# Altium schematic symbol library BQ7721605.SchLib: 1 symbol
Pins are listed as number, name and electrical type; pins without a type are passive.

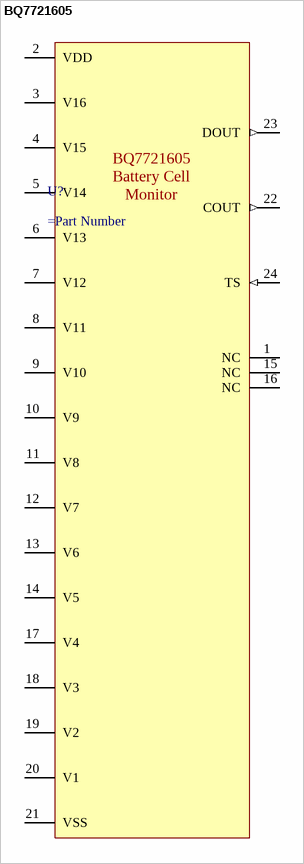
[diagram p0: symbol BQ7721605]

## BQ7721605
designator U?
=Description
pins: 1 NC, 2 VDD (power), 3 V16, 4 V15, 5 V14, 6 V13, 7 V12, 8 V11, 9 V10, 10 V9, 11 V8, 12 V7, 13 V6, 14 V5, 15 NC, 16 NC, 17 V4, 18 V3, 19 V2, 20 V1, 21 VSS (power), 22 COUT (out), 23 DOUT (out), 24 TS (in)
text: BQ7721605 Battery Cell Monitor